# EAGLE library part LMV393XX (library FA3D_lib)
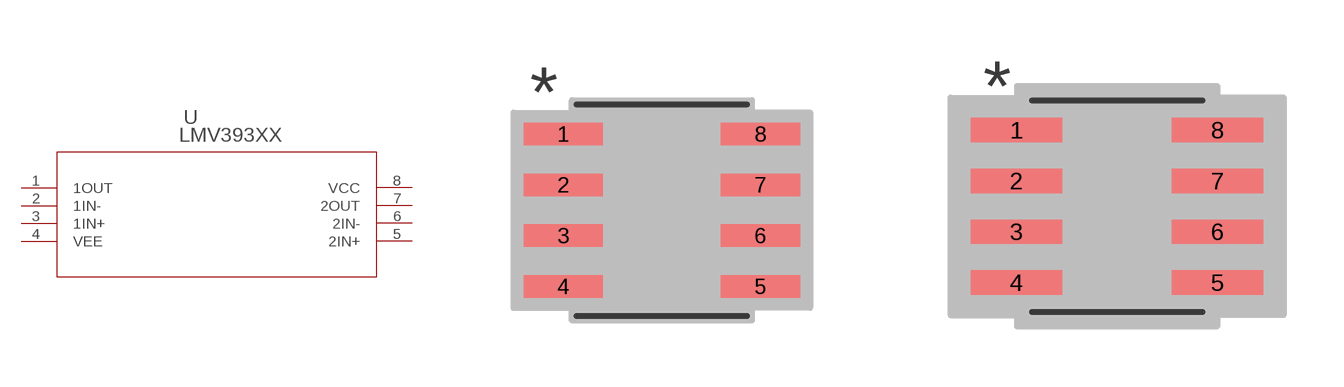
[diagram p4: symbol with the pads of SO8; footprints SO8, SO8-M]

Designator prefix U

## LMV393XX (MANUFACTURER_PART_NUMBER: LMV393S13; VENDOR: Diodes Inc)  [SO8]
1  1OUT  out
2  1IN-  in
3  1IN+  in
4  VEE  pwr
5  2IN+  in
6  2IN-  in
7  2OUT  out
8  VCC  pwr

## LMV393XXSO8-M (MANUFACTURER_PART_NUMBER: LMV393S13; VENDOR: Diodes Inc)  [SO8-M]
Pads as for SO8

## LMV393XXSO8-L (MANUFACTURER_PART_NUMBER: LMV393S13; VENDOR: Diodes Inc)  [SO8-L]
Pads as for SO8

## LMV393XXLMV393M8-13  [MSOP-8]
P$1  1OUT  out
P$2  1IN-  in
P$3  1IN+  in
P$4  VEE  pwr
P$5  2IN+  in
P$6  2IN-  in
P$7  2OUT  out
P$8  VCC  pwr

## Footprint SO8 (pad centres in mm)
smd 1.981 x 0.559: 1 -2.464,1.905; 2 -2.464,0.635; 3 -2.464,-0.635; 4 -2.464,-1.905; 5 2.464,-1.905; 6 2.464,-0.635; 7 2.464,0.635; 8 2.464,1.905

## Footprint SO8-M (pad centres in mm)
smd 2.286 x 0.61: 1 -2.515,1.905; 2 -2.515,0.635; 3 -2.515,-0.635; 4 -2.515,-1.905; 5 2.515,-1.905; 6 2.515,-0.635; 7 2.515,0.635; 8 2.515,1.905

## Footprint SO8-L (pad centres in mm)
smd 1.676 x 0.508: 1 -2.413,1.905; 2 -2.413,0.635; 3 -2.413,-0.635; 4 -2.413,-1.905; 5 2.413,-1.905; 6 2.413,-0.635; 7 2.413,0.635; 8 2.413,1.905

## Footprint MSOP-8 (pad centres in mm)
smd 0.45 x 1.35: P$1 -0.975,-1.975; P$2 -0.325,-1.975; P$3 0.325,-1.975; P$4 0.975,-1.975; P$5 0.975,1.975; P$6 0.325,1.975; P$7 -0.325,1.975; P$8 -0.975,1.975